# EAGLE library part 70553-07 (library con-molex-c-grid)
C-Grid SL
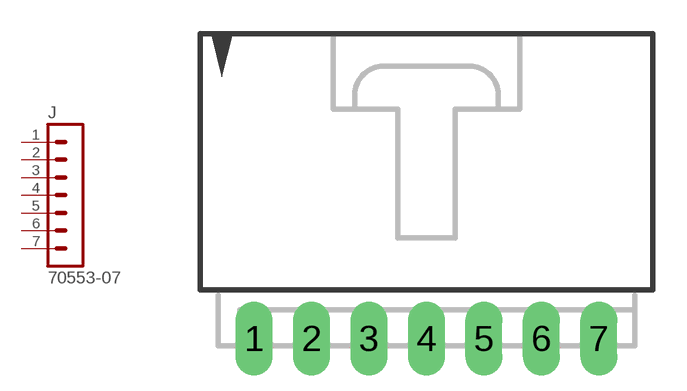
[diagram p21: symbol with the pads of 70553-07; footprint 70553-07]

Designator prefix J

## 70553-07  [70553-07]
1  1  pas
2  2  pas
3  3  pas
4  4  pas
5  5  pas
6  6  pas
7  7  pas

## Footprint 70553-07 (pad centres in mm)
C-Grid SL right angle
drill 1.092 long: 1 -7.62,-7.62; 2 -5.08,-7.62; 3 -2.54,-7.62; 4 0,-7.62; 5 2.54,-7.62; 6 5.08,-7.62; 7 7.62,-7.62